# Altium schematic symbol library V3S_CDR_STD_V1_0_20150526_Library.SchLib: 86 symbols
Pins are listed as number, name and electrical type; pins without a type are passive.

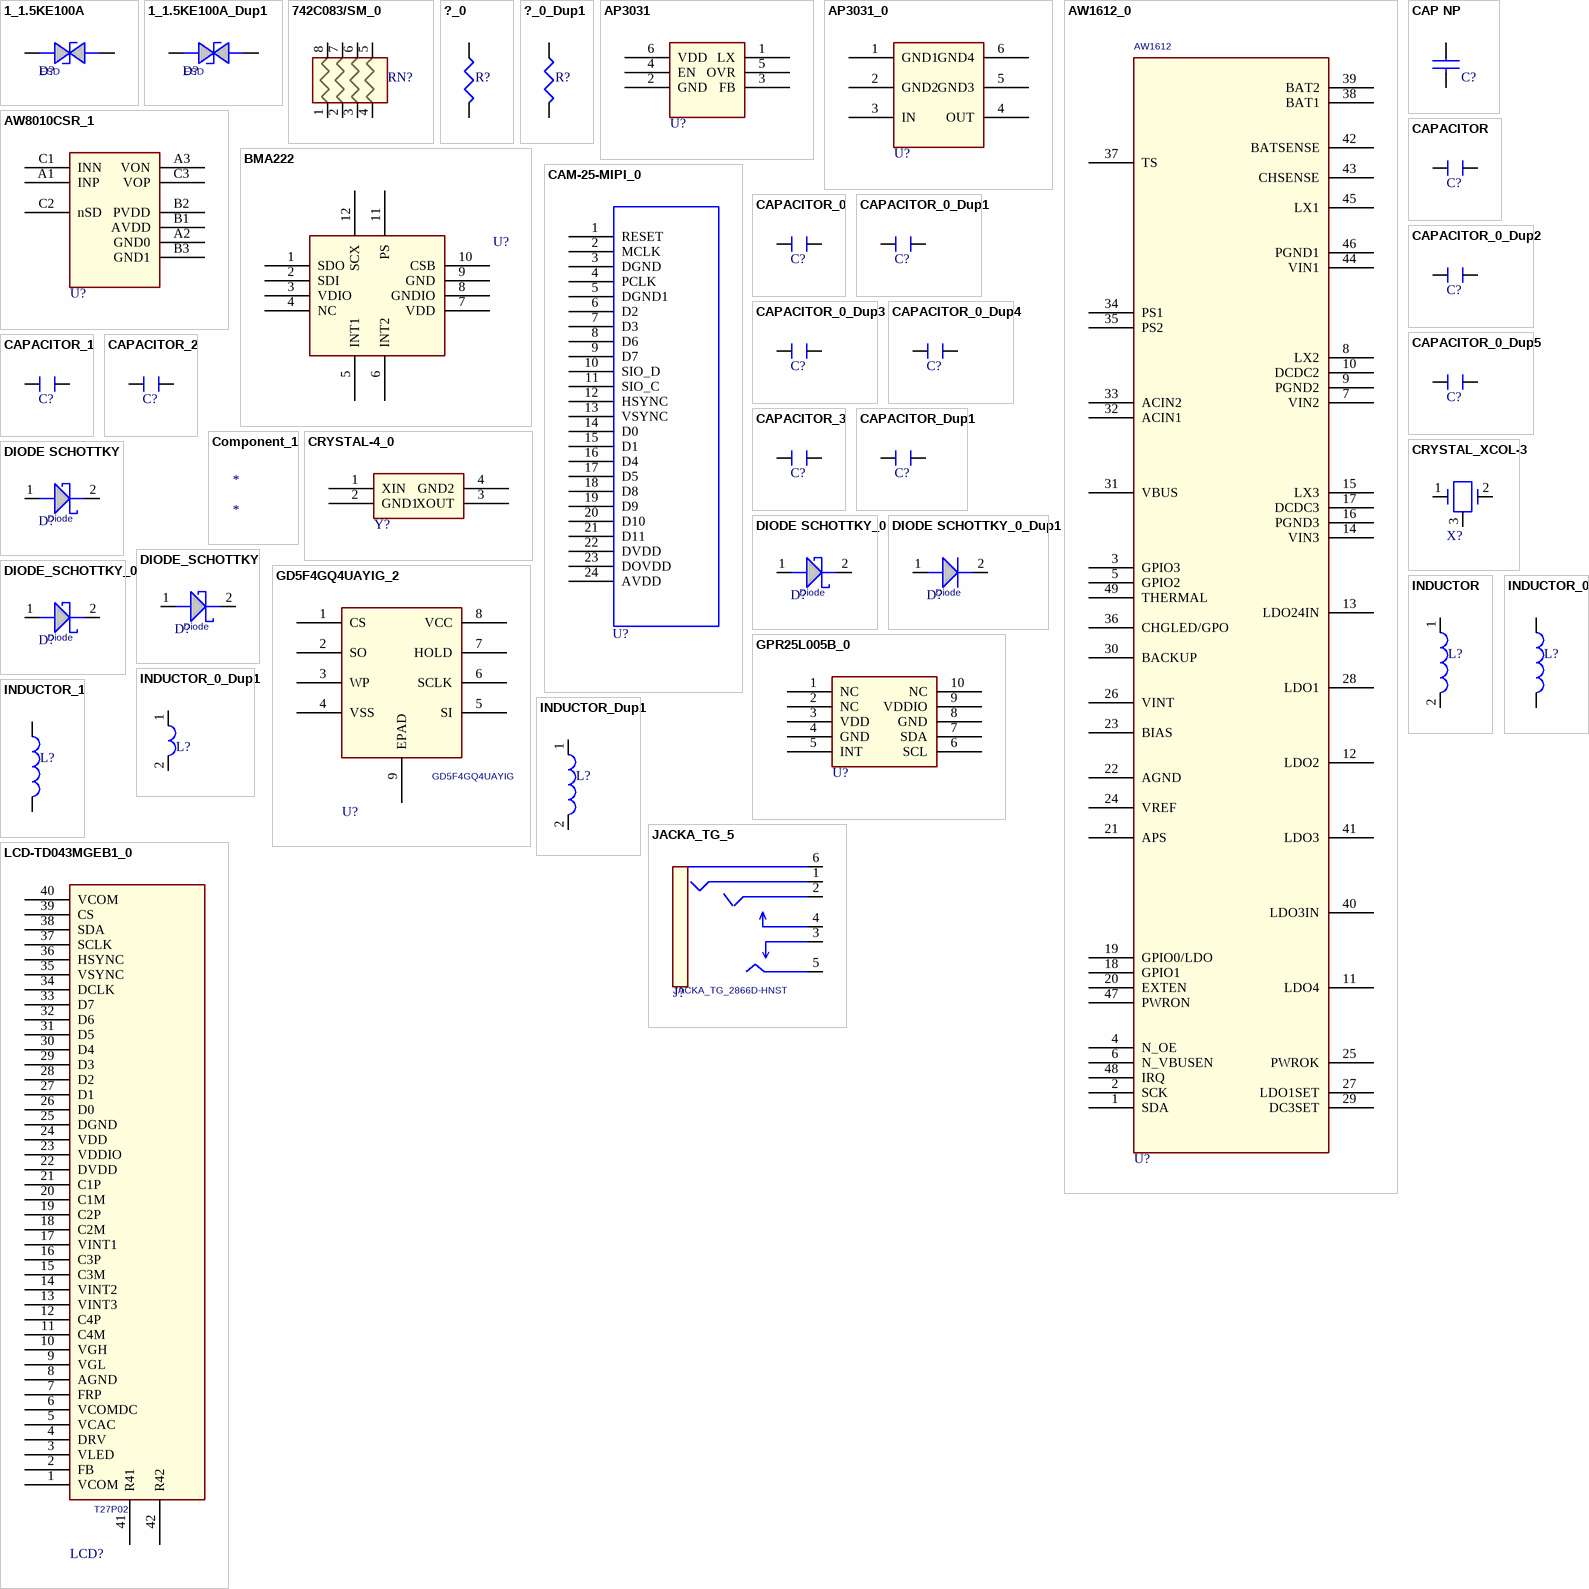
[diagram p0: symbols 1_1.5KE100A to LCD-TD043MGEB1_0]

## 1_1.5KE100A
designator D?, comment ESD
pins: 1 ANODE, 2 CATHODE

## 1_1.5KE100A_Dup1
designator D?, comment ESD
pins: 1 ANODE, 2 CATHODE

## 742C083/SM_0
designator RN?
pins: 1, 2, 3, 4, 5, 6, 7, 8

## ?_0
designator R?
footprint R0402
pins: 1, 2

## ?_0_Dup1
designator R?
footprint R0402
pins: 1, 2

## AP3031
designator U?
pins: 1 LX, 2 GND, 3 FB, 4 EN, 5 OVR, 6 VDD

## AP3031_0
designator U?
pins: 1 GND1, 2 GND2, 3 IN, 4 OUT, 5 GND3, 6 GND4

## AW1612_0
designator U?, comment AW1612
pins: 1 SDA, 2 SCK, 3 GPIO3, 4 N_OE, 5 GPIO2, 6 N_VBUSEN, 7 VIN2, 8 LX2, 9 PGND2, 10 DCDC2, 11 LDO4, 12 LDO2, 13 LDO24IN, 14 VIN3, 15 LX3, 16 PGND3, 17 DCDC3, 18 GPIO1, 19 GPIO0/LDO, 20 EXTEN, 21 APS, 22 AGND, 23 BIAS, 24 VREF, 25 PWROK, 26 VINT, 27 LDO1SET, 28 LDO1, 29 DC3SET, 30 BACKUP, 31 VBUS, 32 ACIN1, 33 ACIN2, 34 PS1, 35 PS2, 36 CHGLED/GPO, 37 TS, 38 BAT1, 39 BAT2, 40 LDO3IN, 41 LDO3, 42 BATSENSE, 43 CHSENSE, 44 VIN1, 45 LX1, 46 PGND1, 47 PWRON, 48 IRQ, 49 THERMAL

## AW8010CSR_1
designator U?
pins: A1 INP, A2 GND0, A3 VON, B1 AVDD, B2 PVDD, B3 GND1, C1 INN, C2 nSD, C3 VOP

## BMA222
designator U?
pins: 1 SDO, 2 SDI, 3 VDIO, 4 NC, 5 INT1, 6 INT2, 7 VDD, 8 GNDIO, 9 GND, 10 CSB, 11 PS, 12 SCX

## CAM-25-MIPI_0
designator U?
pins: 1 RESET, 2 MCLK, 3 DGND, 4 PCLK, 5 DGND1, 6 D2, 7 D3, 8 D6, 9 D7, 10 SIO_D, 11 SIO_C, 12 HSYNC, 13 VSYNC, 14 D0, 15 D1, 16 D4, 17 D5, 18 D8, 19 D9, 20 D10, 21 D11, 22 DVDD, 23 DOVDD, 24 AVDD

## CAP NP
designator C?
pins: 1, 2

## CAPACITOR
designator C?
pins: 1, 2

## CAPACITOR_0
designator C?
pins: 1, 2

## CAPACITOR_0_Dup1
designator C?
pins: 1, 2

## CAPACITOR_0_Dup2
designator C?
pins: 1, 2

## CAPACITOR_0_Dup3
designator C?
pins: 1, 2

## CAPACITOR_0_Dup4
designator C?
pins: 1, 2

## CAPACITOR_0_Dup5
designator C?
pins: 1, 2

## CAPACITOR_1
designator C?
pins: 1, 2

## CAPACITOR_2
designator C?
pins: 1, 2

## CAPACITOR_3
designator C?
pins: 1, 2

## CAPACITOR_Dup1
designator C?
pins: 1, 2

## Component_1
designator *

## CRYSTAL-4_0
designator Y?
footprint CRY-3225
pins: 1 XIN, 2 GND1 (power), 3 XOUT, 4 GND2 (power)

## CRYSTAL_XCOL-3
designator X?
footprint XCOL-3
pins: 1, 2, 3 Shield (power)

## DIODE SCHOTTKY
designator D?, comment Diode
footprint SOD123
pins: 1, 2

## DIODE SCHOTTKY_0
designator D?, comment Diode
footprint SOD123
pins: 1, 2

## DIODE SCHOTTKY_0_Dup1
designator D?, comment Diode
footprint SOD123
pins: 1, 2

## DIODE_SCHOTTKY
designator D?, comment Diode
footprint SOD123
pins: 1, 2

## DIODE_SCHOTTKY_0
designator D?, comment Diode
footprint SOD123
pins: 1, 2

## GD5F4GQ4UAYIG_2
designator U?, comment GD5F4GQ4UAYIG
footprint 8-LEAD-WSON
pins: 1 CS, 2 SO, 3 WP, 4 VSS, 5 SI, 6 SCLK, 7 HOLD, 8 VCC, 9 EPAD

## GPR25L005B_0
designator U?
pins: 1 NC, 2 NC, 3 VDD, 4 GND, 5 INT, 6 SCL, 7 SDA, 8 GND, 9 VDDIO, 10 NC

## INDUCTOR
designator L?
pins: 1, 2

## INDUCTOR_0
designator L?
pins: 1, 2

## INDUCTOR_0_Dup1
designator L?
OriginalSymbolOrigin: (10,0)
pins: 1, 2

## INDUCTOR_1
designator L?
pins: 1, 2

## INDUCTOR_Dup1
designator L?
pins: 1, 2

## JACKA_TG_5
designator J?, comment JACKA_TG_2866D-HNST
2.6mm TV Stereo Jack G/TV/R/L/SW  RoHS; Vendor: WF; Vendor PN: JACKA_ST021.1; Distributor: WF; Package: JACKA_ST021.1
footprint JACKA_ST021.1
pins: 1, 2, 3, 4, 5, 6

## LCD-TD043MGEB1_0
designator LCD?, comment T27P02
pins: 1 VCOM, 2 FB, 3 VLED, 4 DRV, 5 VCAC, 6 VCOMDC, 7 FRP, 8 AGND, 9 VGL, 10 VGH, 11 C4M, 12 C4P, 13 VINT3, 14 VINT2, 15 C3M, 16 C3P, 17 VINT1, 18 C2M, 19 C2P, 20 C1M, 21 C1P, 22 DVDD, 23 VDDIO, 24 VDD, 25 DGND, 26 D0, 27 D1, 28 D2, 29 D3, 30 D4, 31 D5, 32 D6, 33 D7, 34 DCLK, 35 VSYNC, 36 HSYNC, 37 SCLK, 38 SDA, 39 CS, 40 VCOM, 41 R41, 42 R42

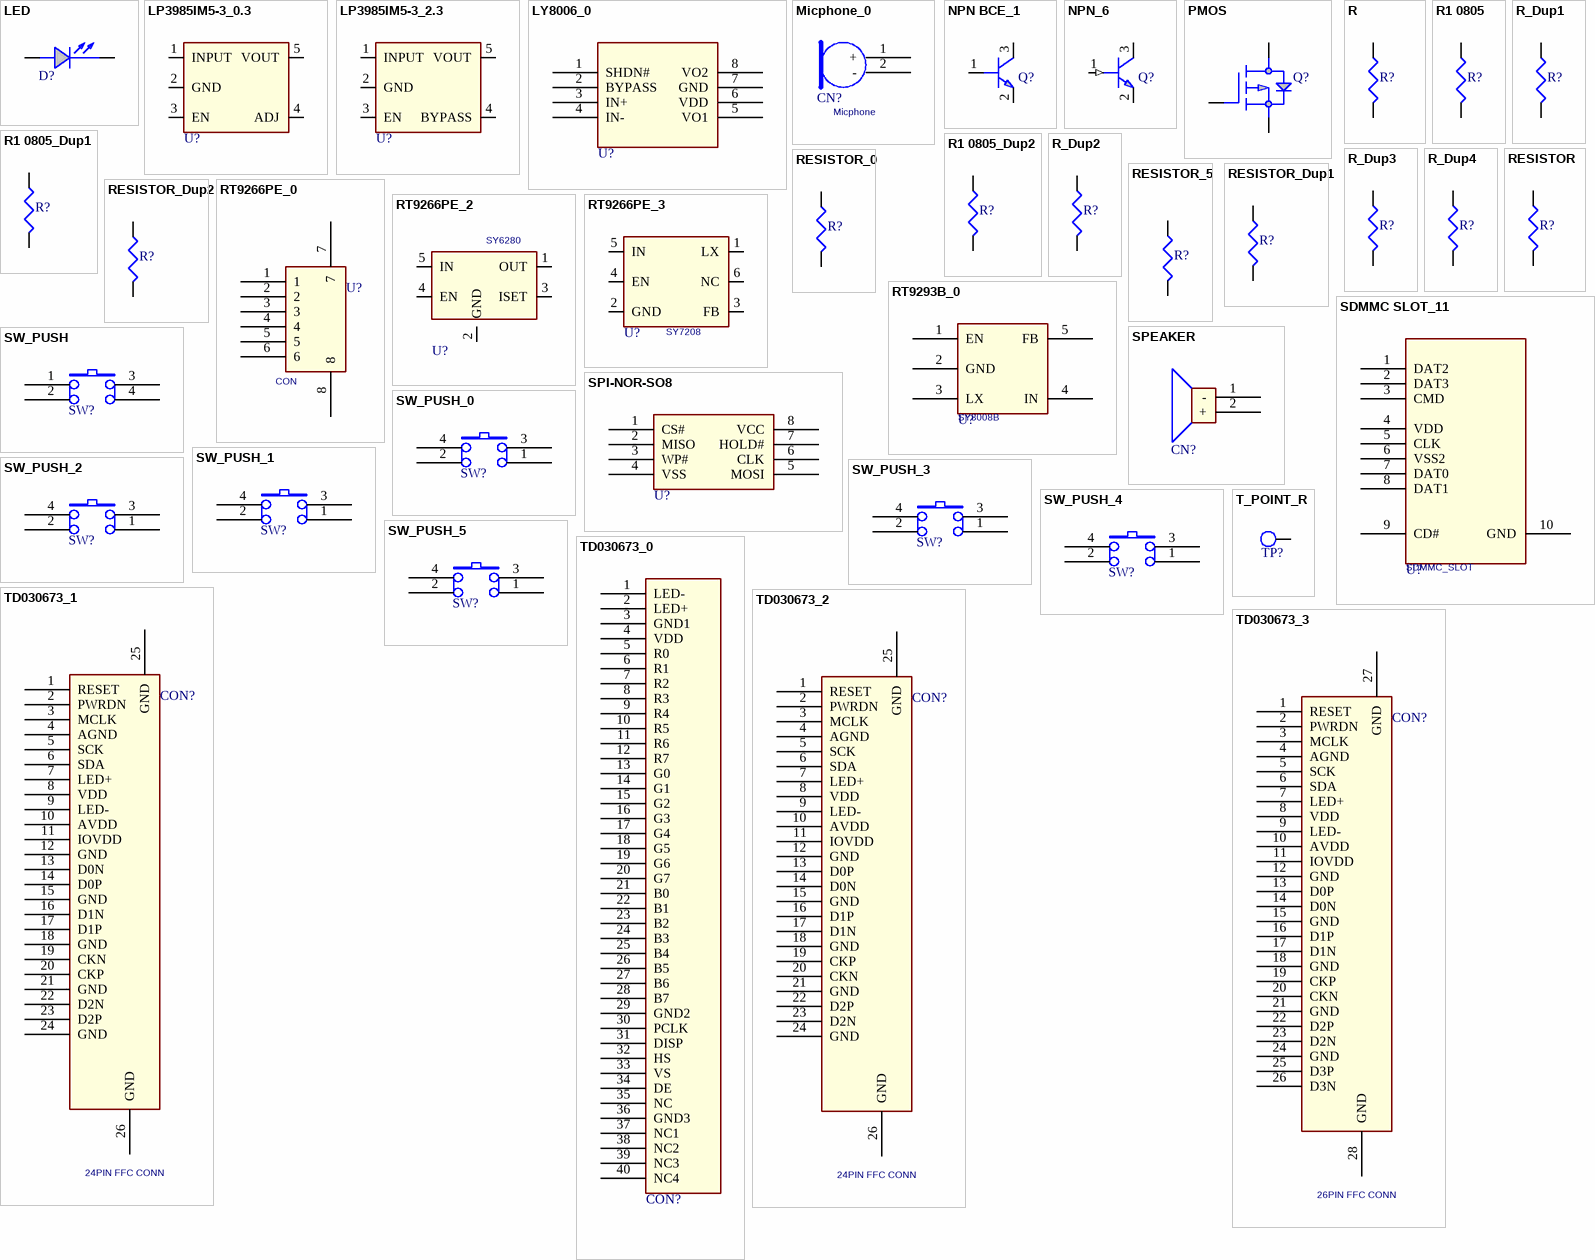
[diagram p1: symbols LED to TD030673_3]

## LED
designator D?
footprint 0805
pins: 1 ANODE, 2 CATHODE

## LP3985IM5-3_0.3
designator U?
pins: 1 INPUT, 2 GND, 3 EN, 4 ADJ, 5 VOUT

## LP3985IM5-3_2.3
designator U?
pins: 1 INPUT, 2 GND, 3 EN, 4 BYPASS, 5 VOUT

## LY8006_0
designator U?
pins: 1 SHDN#, 2 BYPASS, 3 IN+, 4 IN-, 5 VO1, 6 VDD, 7 GND, 8 VO2

## Micphone_0
designator CN?, comment Micphone
footprint Micphone Connector
pins: 1 +, 2 -

## NPN BCE_1
designator Q?
pins: 1 B, 2 E, 3 C

## NPN_6
designator Q?
pins: 1 BASE (in), 2 EMITTER, 3 COLLECTOR

## PMOS
designator Q?
pins: 1 GATE, 2 SOURCE, 3 DRAIN

## R
designator R?
pins: 1, 2

## R1 0805
designator R?
footprint 0805
pins: 1, 2

## R1 0805_Dup1
designator R?
footprint 0805
pins: 1, 2

## R1 0805_Dup2
designator R?
footprint 0805
pins: 1, 2

## R_Dup1
designator R?
pins: 1, 2

## R_Dup2
designator R?
pins: 1, 2

## R_Dup3
designator R?
pins: 1, 2

## R_Dup4
designator R?
pins: 1, 2

## RESISTOR
designator R?
pins: 1, 2

## RESISTOR_0
designator R?
footprint R0603
pins: 1, 2

## RESISTOR_5
designator R?
pins: 1, 2

## RESISTOR_Dup1
designator R?
pins: 1, 2

## RESISTOR_Dup2
designator R?
pins: 1, 2

## RT9266PE_0
designator U?, comment CON
footprint SOT23-6
pins: 1, 2, 3, 4, 5, 6, 7, 8

## RT9266PE_2
designator U?, comment SY6280
footprint SOT23-6
pins: 1 OUT, 2 GND, 3 ISET, 4 EN, 5 IN

## RT9266PE_3
designator U?, comment SY7208
footprint SOT23-6
pins: 1 LX, 2 GND, 3 FB, 4 EN, 5 IN, 6 NC

## RT9293B_0
designator U?, comment SY8008B
footprint TSOT-23-6
pins: 1 EN, 2 GND, 3 LX, 4 IN, 5 FB

## SDMMC SLOT_11
designator U?, comment SDMMC_SLOT
pins: 1 DAT2, 2 DAT3, 3 CMD, 4 VDD, 5 CLK, 6 VSS2, 7 DAT0, 8 DAT1, 9 CD#, 10 GND (power)

## SPEAKER
designator CN?
footprint Phone Connector
pins: 1 -, 2 +

## SPI-NOR-SO8
designator U?
footprint SOIC-8
pins: 1 CS#, 2 MISO, 3 WP#, 4 VSS, 5 MOSI, 6 CLK, 7 HOLD#, 8 VCC

## SW_PUSH
designator SW?
SDTSourceLibName: C:\WIND95\TEMP\6200.LIB
footprint SW4
pins: 1, 2, 3, 4 6

## SW_PUSH_0
designator SW?
SDTSourceLibName: C:\WIND95\TEMP\6200.LIB
footprint SW4
pins: 1, 2, 3, 4

## SW_PUSH_1
designator SW?
SDTSourceLibName: C:\WIND95\TEMP\6200.LIB
footprint SW4
pins: 1, 2, 3, 4

## SW_PUSH_2
designator SW?
SDTSourceLibName: C:\WIND95\TEMP\6200.LIB
footprint SW4
pins: 1, 2, 3, 4

## SW_PUSH_3
designator SW?
SDTSourceLibName: C:\WIND95\TEMP\6200.LIB
footprint SW4
pins: 1, 2, 3, 4

## SW_PUSH_4
designator SW?
SDTSourceLibName: C:\WIND95\TEMP\6200.LIB
footprint SW4
pins: 1, 2, 3, 4

## SW_PUSH_5
designator SW?
SDTSourceLibName: C:\WIND95\TEMP\6200.LIB
footprint SW4
pins: 1, 2, 3, 4

## T_POINT_R
designator TP?
pins: 1 TP

## TD030673_0
designator CON?
footprint CON40
pins: 1 LED-, 2 LED+, 3 GND1, 4 VDD, 5 R0, 6 R1, 7 R2, 8 R3, 9 R4, 10 R5, 11 R6, 12 R7, 13 G0, 14 G1, 15 G2, 16 G3, 17 G4, 18 G5, 19 G6, 20 G7, 21 B0, 22 B1, 23 B2, 24 B3, 25 B4, 26 B5, 27 B6, 28 B7, 29 GND2, 30 PCLK, 31 DISP, 32 HS, 33 VS, 34 DE, 35 NC, 36 GND3, 37 NC1, 38 NC2, 39 NC3, 40 NC4

## TD030673_1
designator CON?, comment 24PIN FFC CONN
footprint CON40
pins: 1 RESET, 2 PWRDN, 3 MCLK, 4 AGND, 5 SCK, 6 SDA, 7 LED+, 8 VDD, 9 LED-, 10 AVDD, 11 IOVDD, 12 GND, 13 D0N, 14 D0P, 15 GND, 16 D1N, 17 D1P, 18 GND, 19 CKN, 20 CKP, 21 GND, 22 D2N, 23 D2P, 24 GND, 25 GND, 26 GND

## TD030673_2
designator CON?, comment 24PIN FFC CONN
footprint CON40
pins: 1 RESET, 2 PWRDN, 3 MCLK, 4 AGND, 5 SCK, 6 SDA, 7 LED+, 8 VDD, 9 LED-, 10 AVDD, 11 IOVDD, 12 GND, 13 D0P, 14 D0N, 15 GND, 16 D1P, 17 D1N, 18 GND, 19 CKP, 20 CKN, 21 GND, 22 D2P, 23 D2N, 24 GND, 25 GND, 26 GND

## TD030673_3
designator CON?, comment 26PIN FFC CONN
footprint CON40
pins: 1 RESET, 2 PWRDN, 3 MCLK, 4 AGND, 5 SCK, 6 SDA, 7 LED+, 8 VDD, 9 LED-, 10 AVDD, 11 IOVDD, 12 GND, 13 D0P, 14 D0N, 15 GND, 16 D1P, 17 D1N, 18 GND, 19 CKP, 20 CKN, 21 GND, 22 D2P, 23 D2N, 24 GND, 25 D3P, 26 D3N, 27 GND, 28 GND

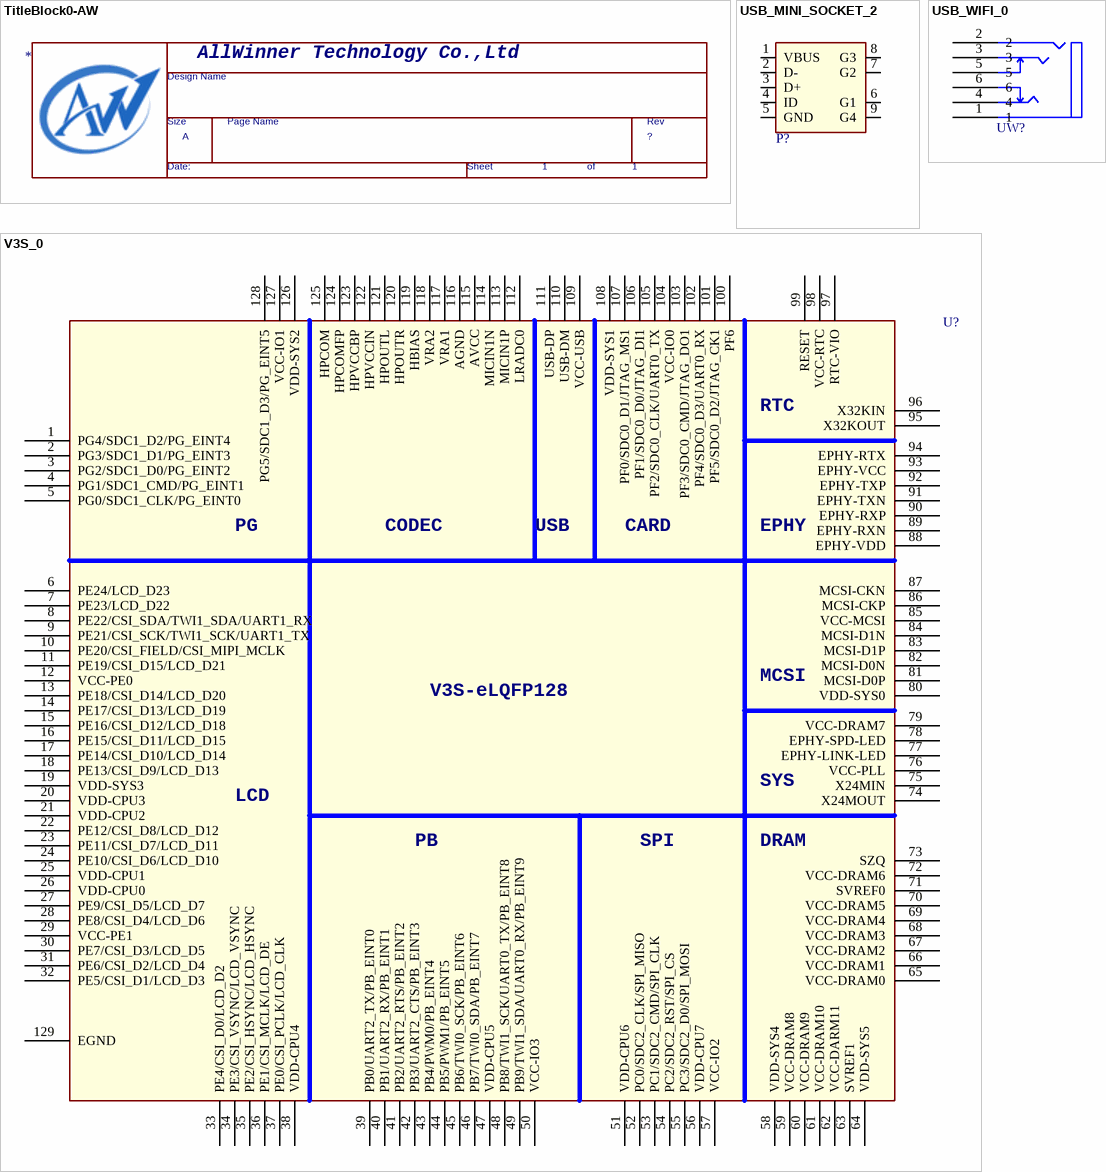
[diagram p2: symbols TitleBlock0-AW to V3S_0]

## TitleBlock0-AW
designator *  Page Count: 1  Page Size: A  (graphical)
Page Number: 1; RevCode: ?; Page Create Date: March  8, 1995
text: AllWinner Technology Co.,Ltd; Design Name; Size; Page Name; Rev; Date:; Sheet; of

## USB_MINI_SOCKET_2
designator P?
footprint USB_MINI_AB
pins: 1 VBUS, 2 D-, 3 D+, 4 ID, 5 GND, 6 G1, 7 G2, 8 G3, 9 G4

## USB_WIFI_0
designator UW?
pins: 1, 2, 3, 4, 5, 6

## V3S_0
designator U?
footprint eLPFP128
pins: 1 PG4/SDC1_D2/PG_EINT4, 2 PG3/SDC1_D1/PG_EINT3, 3 PG2/SDC1_D0/PG_EINT2, 4 PG1/SDC1_CMD/PG_EINT1, 5 PG0/SDC1_CLK/PG_EINT0, 6 PE24/LCD_D23, 7 PE23/LCD_D22, 8 PE22/CSI_SDA/TWI1_SDA/UART1_RX, 9 PE21/CSI_SCK/TWI1_SCK/UART1_TX, 10 PE20/CSI_FIELD/CSI_MIPI_MCLK, 11 PE19/CSI_D15/LCD_D21, 12 VCC-PE0, 13 PE18/CSI_D14/LCD_D20, 14 PE17/CSI_D13/LCD_D19, 15 PE16/CSI_D12/LCD_D18, 16 PE15/CSI_D11/LCD_D15, 17 PE14/CSI_D10/LCD_D14, 18 PE13/CSI_D9/LCD_D13, 19 VDD-SYS3, 20 VDD-CPU3, 21 VDD-CPU2, 22 PE12/CSI_D8/LCD_D12, 23 PE11/CSI_D7/LCD_D11, 24 PE10/CSI_D6/LCD_D10, 25 VDD-CPU1, 26 VDD-CPU0, 27 PE9/CSI_D5/LCD_D7, 28 PE8/CSI_D4/LCD_D6, 29 VCC-PE1, 30 PE7/CSI_D3/LCD_D5, 31 PE6/CSI_D2/LCD_D4, 32 PE5/CSI_D1/LCD_D3, 33 PE4/CSI_D0/LCD_D2, 34 PE3/CSI_VSYNC/LCD_VSYNC, 35 PE2/CSI_HSYNC/LCD_HSYNC, 36 PE1/CSI_MCLK/LCD_DE, 37 PE0/CSI_PCLK/LCD_CLK, 38 VDD-CPU4, 39 PB0/UART2_TX/PB_EINT0, 40 PB1/UART2_RX/PB_EINT1, 41 PB2/UART2_RTS/PB_EINT2, 42 PB3/UART2_CTS/PB_EINT3, 43 PB4/PWM0/PB_EINT4, 44 PB5/PWM1/PB_EINT5, 45 PB6/TWI0_SCK/PB_EINT6, 46 PB7/TWI0_SDA/PB_EINT7, 47 VDD-CPU5, 48 PB8/TWI1_SCK/UART0_TX/PB_EINT8, 49 PB9/TWI1_SDA/UART0_RX/PB_EINT9, 50 VCC-IO3, 51 VDD-CPU6, 52 PC0/SDC2_CLK/SPI_MISO, 53 PC1/SDC2_CMD/SPI_CLK, 54 PC2/SDC2_RST/SPI_CS, 55 PC3/SDC2_D0/SPI_MOSI, 56 VDD-CPU7, 57 VCC-IO2, 58 VDD-SYS4, 59 VCC-DRAM8, 60 VCC-DRAM9, 61 VCC-DRAM10, 62 VCC-DARM11, 63 SVREF1, 64 VDD-SYS5, 65 VCC-DRAM0, 66 VCC-DRAM1, 67 VCC-DRAM2, 68 VCC-DRAM3, 69 VCC-DRAM4, 70 VCC-DRAM5, 71 SVREF0, 72 VCC-DRAM6, 73 SZQ, 74 X24MOUT, 75 X24MIN, 76 VCC-PLL, 77 EPHY-LINK-LED, 78 EPHY-SPD-LED, 79 VCC-DRAM7, 80 VDD-SYS0, 81 MCSI-D0P, 82 MCSI-D0N, 83 MCSI-D1P, 84 MCSI-D1N, 85 VCC-MCSI, 86 MCSI-CKP, 87 MCSI-CKN, 88 EPHY-VDD, 89 EPHY-RXN, 90 EPHY-RXP, 91 EPHY-TXN, 92 EPHY-TXP, 93 EPHY-VCC, 94 EPHY-RTX, 95 X32KOUT, 96 X32KIN, 97 RTC-VIO, 98 VCC-RTC, 99 RESET, 100 PF6, 101 PF5/SDC0_D2/JTAG_CK1, 102 PF4/SDC0_D3/UART0_RX, 103 PF3/SDC0_CMD/JTAG_DO1, 104 VCC-IO0, 105 PF2/SDC0_CLK/UART0_TX, 106 PF1/SDC0_D0/JTAG_DI1, 107 PF0/SDC0_D1/JTAG_MS1, 108 VDD-SYS1, 109 VCC-USB, 110 USB-DM, 111 USB-DP, 112 LRADC0, 113 MICIN1P, 114 MICIN1N, 115 AVCC, 116 AGND, 117 VRA1, 118 VRA2, 119 HBIAS, 120 HPOUTR, 121 HPOUTL, 122 HPVCCIN, 123 HPVCCBP, 124 HPCOMFP, 125 HPCOM, 126 VDD-SYS2, 127 VCC-IO1, 128 PG5/SDC1_D3/PG_EINT5, 129 EGND
text: RTC; PG; CODEC; USB; CARD; EPHY; MCSI; V3S-eLQFP128; SYS; LCD; PB; SPI; DRAM

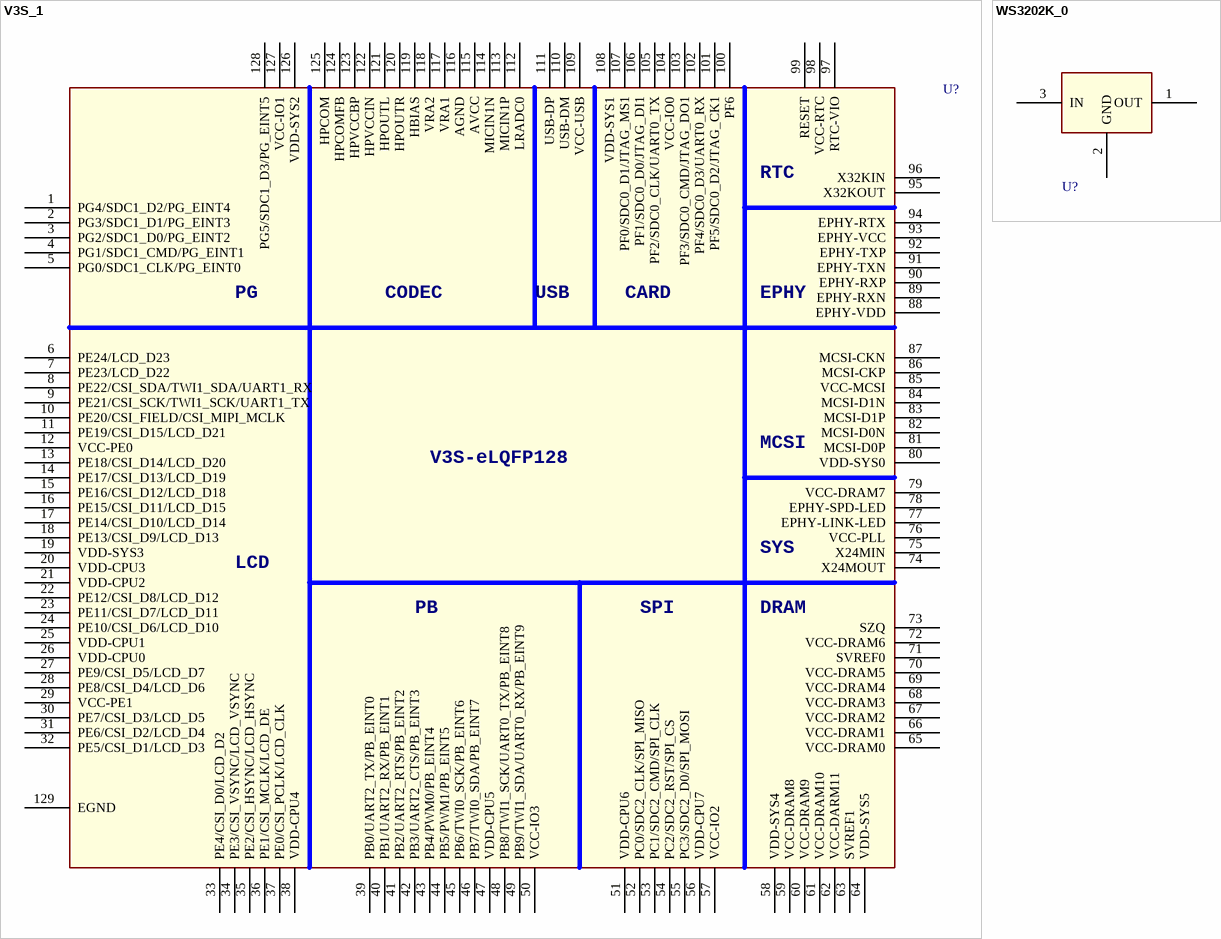
[diagram p3: symbols V3S_1 to WS3202K_0]

## V3S_1
designator U?
footprint eLPFP128
pins: 1 PG4/SDC1_D2/PG_EINT4, 2 PG3/SDC1_D1/PG_EINT3, 3 PG2/SDC1_D0/PG_EINT2, 4 PG1/SDC1_CMD/PG_EINT1, 5 PG0/SDC1_CLK/PG_EINT0, 6 PE24/LCD_D23, 7 PE23/LCD_D22, 8 PE22/CSI_SDA/TWI1_SDA/UART1_RX, 9 PE21/CSI_SCK/TWI1_SCK/UART1_TX, 10 PE20/CSI_FIELD/CSI_MIPI_MCLK, 11 PE19/CSI_D15/LCD_D21, 12 VCC-PE0, 13 PE18/CSI_D14/LCD_D20, 14 PE17/CSI_D13/LCD_D19, 15 PE16/CSI_D12/LCD_D18, 16 PE15/CSI_D11/LCD_D15, 17 PE14/CSI_D10/LCD_D14, 18 PE13/CSI_D9/LCD_D13, 19 VDD-SYS3, 20 VDD-CPU3, 21 VDD-CPU2, 22 PE12/CSI_D8/LCD_D12, 23 PE11/CSI_D7/LCD_D11, 24 PE10/CSI_D6/LCD_D10, 25 VDD-CPU1, 26 VDD-CPU0, 27 PE9/CSI_D5/LCD_D7, 28 PE8/CSI_D4/LCD_D6, 29 VCC-PE1, 30 PE7/CSI_D3/LCD_D5, 31 PE6/CSI_D2/LCD_D4, 32 PE5/CSI_D1/LCD_D3, 33 PE4/CSI_D0/LCD_D2, 34 PE3/CSI_VSYNC/LCD_VSYNC, 35 PE2/CSI_HSYNC/LCD_HSYNC, 36 PE1/CSI_MCLK/LCD_DE, 37 PE0/CSI_PCLK/LCD_CLK, 38 VDD-CPU4, 39 PB0/UART2_TX/PB_EINT0, 40 PB1/UART2_RX/PB_EINT1, 41 PB2/UART2_RTS/PB_EINT2, 42 PB3/UART2_CTS/PB_EINT3, 43 PB4/PWM0/PB_EINT4, 44 PB5/PWM1/PB_EINT5, 45 PB6/TWI0_SCK/PB_EINT6, 46 PB7/TWI0_SDA/PB_EINT7, 47 VDD-CPU5, 48 PB8/TWI1_SCK/UART0_TX/PB_EINT8, 49 PB9/TWI1_SDA/UART0_RX/PB_EINT9, 50 VCC-IO3, 51 VDD-CPU6, 52 PC0/SDC2_CLK/SPI_MISO, 53 PC1/SDC2_CMD/SPI_CLK, 54 PC2/SDC2_RST/SPI_CS, 55 PC3/SDC2_D0/SPI_MOSI, 56 VDD-CPU7, 57 VCC-IO2, 58 VDD-SYS4, 59 VCC-DRAM8, 60 VCC-DRAM9, 61 VCC-DRAM10, 62 VCC-DARM11, 63 SVREF1, 64 VDD-SYS5, 65 VCC-DRAM0, 66 VCC-DRAM1, 67 VCC-DRAM2, 68 VCC-DRAM3, 69 VCC-DRAM4, 70 VCC-DRAM5, 71 SVREF0, 72 VCC-DRAM6, 73 SZQ, 74 X24MOUT, 75 X24MIN, 76 VCC-PLL, 77 EPHY-LINK-LED, 78 EPHY-SPD-LED, 79 VCC-DRAM7, 80 VDD-SYS0, 81 MCSI-D0P, 82 MCSI-D0N, 83 MCSI-D1P, 84 MCSI-D1N, 85 VCC-MCSI, 86 MCSI-CKP, 87 MCSI-CKN, 88 EPHY-VDD, 89 EPHY-RXN, 90 EPHY-RXP, 91 EPHY-TXN, 92 EPHY-TXP, 93 EPHY-VCC, 94 EPHY-RTX, 95 X32KOUT, 96 X32KIN, 97 RTC-VIO, 98 VCC-RTC, 99 RESET, 100 PF6, 101 PF5/SDC0_D2/JTAG_CK1, 102 PF4/SDC0_D3/UART0_RX, 103 PF3/SDC0_CMD/JTAG_DO1, 104 VCC-IO0, 105 PF2/SDC0_CLK/UART0_TX, 106 PF1/SDC0_D0/JTAG_DI1, 107 PF0/SDC0_D1/JTAG_MS1, 108 VDD-SYS1, 109 VCC-USB, 110 USB-DM, 111 USB-DP, 112 LRADC0, 113 MICIN1P, 114 MICIN1N, 115 AVCC, 116 AGND, 117 VRA1, 118 VRA2, 119 HBIAS, 120 HPOUTR, 121 HPOUTL, 122 HPVCCIN, 123 HPVCCBP, 124 HPCOMFB, 125 HPCOM, 126 VDD-SYS2, 127 VCC-IO1, 128 PG5/SDC1_D3/PG_EINT5, 129 EGND
text: RTC; PG; CODEC; USB; CARD; EPHY; MCSI; V3S-eLQFP128; SYS; LCD; PB; SPI; DRAM

## WS3202K_0
designator U?
footprint SOT-89-3L
pins: 1 OUT, 2 GND, 3 IN